# Altium integrated library EP3C25E144.IntLib: 1 symbol
Pins are listed as number, name and electrical type; pins without a type are passive.

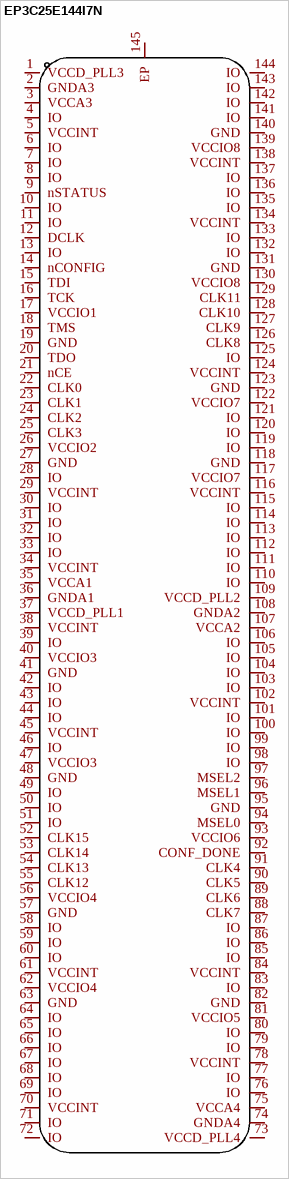
[diagram p0: symbol EP3C25E144I7N]

## EP3C25E144I7N
designator U??  (value not drawn)
Manufacturer: Intel/Altera; Add into BOM: yes; Name: EP3C25E144I7N; Symbol: EP3C25E144I7N; Device: EP3C25E144I7N; LCSC Part Name: EP3C25E144I7N; Supplier Part: C568974; Manufacturer Part: EP3C25E144I7N; Supplier Footprint: LQFP-144(20x20); JLCPCB Part Class: Extended Part; Datasheet: https://atta.szlcsc.com/upload/public/pdf/source/20200529/C568964_339C079514D0FB396934B39CDC1DD65A.pdf; Supplier: LCSC; Convert to PCB: yes
footprint LQFP-144_L20.0-W20.0-P0.50-LS22.0-BL-EP
3D model LQFP-144_L20.0-W20.0-P0.50-LS22.0-BL-EP
pins: 1 VCCD_PLL3, 2 GNDA3, 3 VCCA3, 4 IO, 5 VCCINT, 6 IO, 7 IO, 8 IO, 9 nSTATUS, 10 IO, 11 IO, 12 DCLK, 13 IO, 14 nCONFIG, 15 TDI, 16 TCK, 17 VCCIO1, 18 TMS, 19 GND, 20 TDO, 21 nCE, 22 CLK0, 23 CLK1, 24 CLK2, 25 CLK3, 26 VCCIO2, 27 GND, 28 IO, 29 VCCINT, 30 IO, 31 IO, 32 IO, 33 IO, 34 VCCINT, 35 VCCA1, 36 GNDA1, 37 VCCD_PLL1, 38 VCCINT, 39 IO, 40 VCCIO3, 41 GND, 42 IO, 43 IO, 44 IO, 45 VCCINT, 46 IO, 47 VCCIO3, 48 GND, 49 IO, 50 IO, 51 IO, 52 CLK15, 53 CLK14, 54 CLK13, 55 CLK12, 56 VCCIO4, 57 GND, 58 IO, 59 IO, 60 IO, 61 VCCINT, 62 VCCIO4, 63 GND, 64 IO, 65 IO, 66 IO, 67 IO, 68 IO, 69 IO, 70 VCCINT, 71 IO, 72 IO, 73 VCCD_PLL4, 74 GNDA4, 75 VCCA4, 76 IO, 77 IO, 78 VCCINT, 79 IO, 80 IO, 81 VCCIO5, 82 GND, 83 IO, 84 VCCINT, 85 IO, 86 IO, 87 IO, 88 CLK7, 89 CLK6, 90 CLK5, 91 CLK4, 92 CONF_DONE, 93 VCCIO6, 94 MSEL0, 95 GND, 96 MSEL1, 97 MSEL2, 98 IO, 99 IO, 100 IO, 101 IO, 102 VCCINT, 103 IO, 104 IO, 105 IO, 106 IO, 107 VCCA2, 108 GNDA2, 109 VCCD_PLL2, 110 IO, 111 IO, 112 IO, 113 IO, 114 IO, 115 IO, 116 VCCINT, 117 VCCIO7, 118 GND, 119 IO, 120 IO, 121 IO, 122 VCCIO7, 123 GND, 124 VCCINT, 125 IO, 126 CLK8, 127 CLK9, 128 CLK10, 129 CLK11, 130 VCCIO8, 131 GND, 132 IO, 133 IO, 134 VCCINT, 135 IO, 136 IO, 137 IO, 138 VCCINT, 139 VCCIO8, 140 GND, 141 IO, 142 IO, 143 IO, 144 IO, 145 EP